# Altium footprint library CN_VAL_U_LOK_4P_STRAIGHT.PcbLib: 1 footprints
Each footprint in its own frame and in the unit in brackets; x right, y up, seen from the top. Pads: shape width x height; smd on the part's side, far side on the other; paste and mask are expansions set on the pad; w line width, h text height; cw(c..) or ccw(c..) is an arc to the next point about the centre after c.
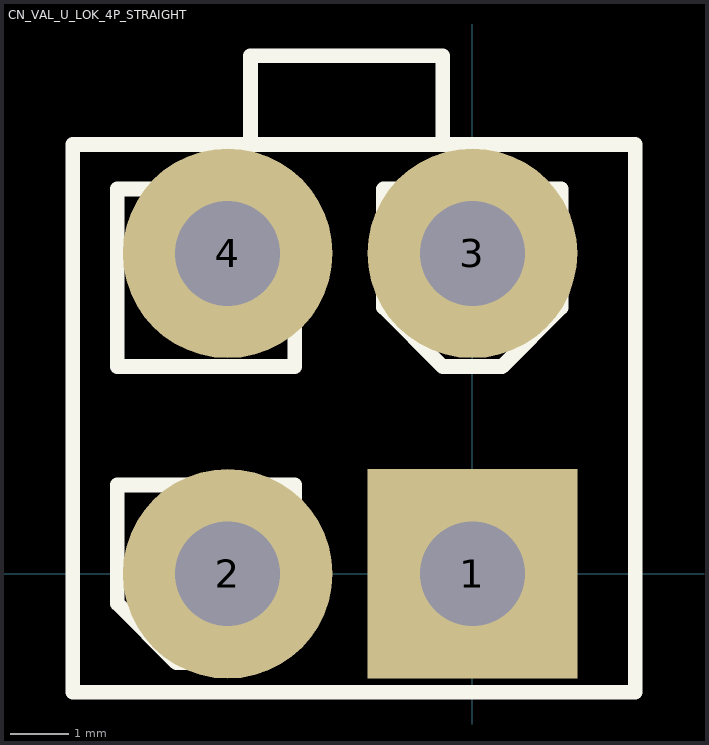
[diagram p0: the footprint, top view; thin cyan lines are the x and y axes]

## CN_VAL_U_LOK_4P_STRAIGHT [mm] "TE CONNECTIVITY / AMP - 1586037-4"
pads (4):
  rect 3.6x3.6 hole 1.8: 1(0,0)
  round 3.6 hole 1.8: 2(-4.2,0) 3(0,5.5) 4(-4.2,5.5)
Top Overlay:
  lines w0.254: -3.81,7.366 -3.81,8.89 -0.508,8.89 -0.508,7.366 ; -6.858,-2.032 -6.858,7.366 2.794,7.366 2.794,-2.032 -6.858,-2.032 ; -6.096,-0.508 -5.08,-1.524 -4.064,-1.524 -3.048,-0.508 -3.048,1.524 -6.096,1.524 -6.096,-0.508 ; -6.096,3.556 -6.096,6.604 -3.048,6.604 -3.048,3.556 -6.096,3.556 ; -1.524,-1.524 -1.524,1.524 1.524,1.524 1.524,-1.524 -1.524,-1.524 ; -1.524,4.572 -1.524,6.604 1.524,6.604 1.524,4.572 0.508,3.556 -0.508,3.556 -1.524,4.572
3D body: height 12.8, standoff -3.5, extent -6.9,-2.125 3.1,8.825